# Altium schematic symbol library SparkFun-Resistors.SCHLIB: 269 symbols (part 2 of 3)
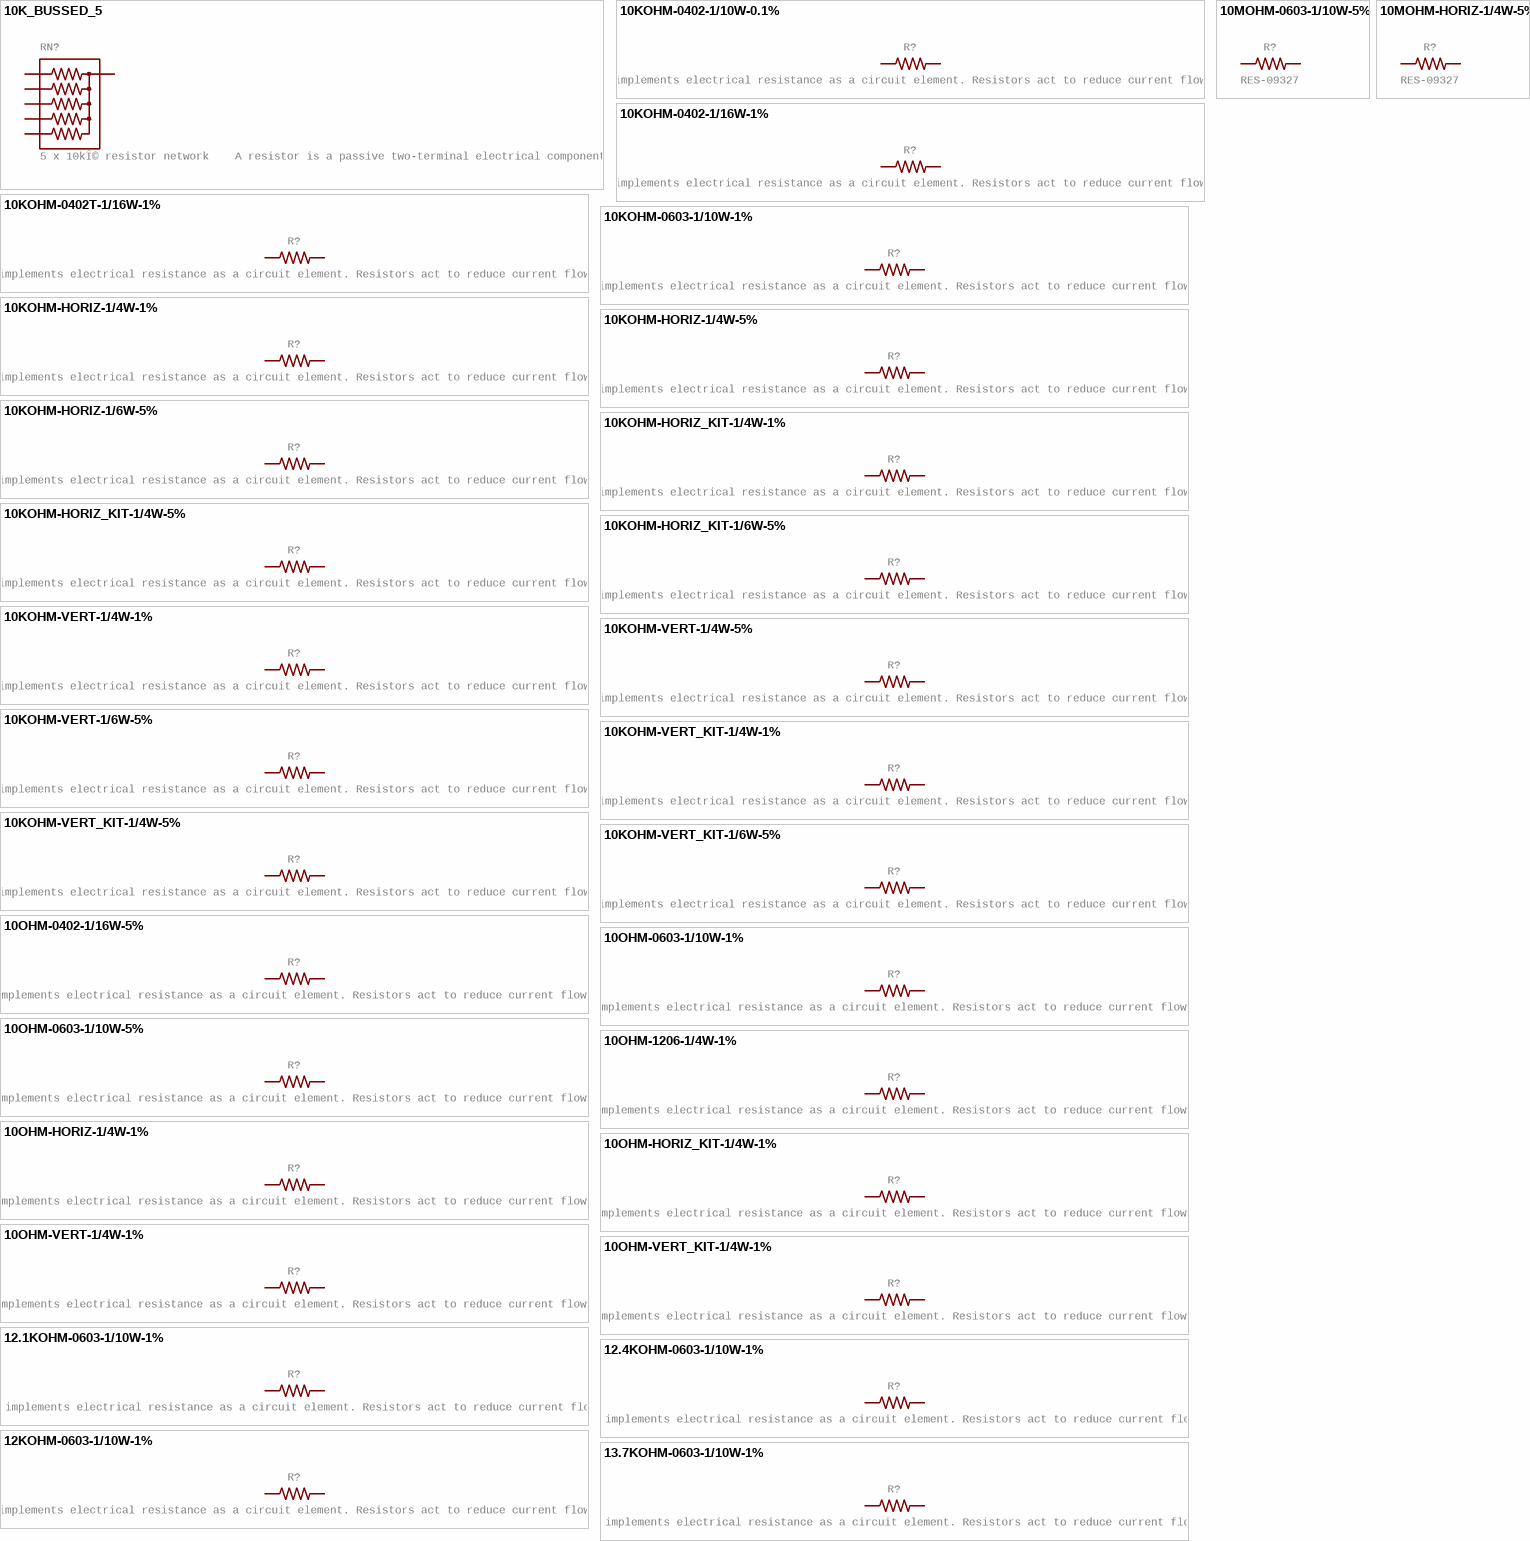
[diagram p11: symbols 10K_BUSSED_5 to 13.7KOHM-0603-1/10W-1%]

## 10MOHM-HORIZ-1/4W-5%
designator R?, comment RES-09327
GateName_1: G$1; SymbolName_1: RESISTOR; DeviceName: -HORIZ-1/4W-5%; DeviceSetName: 10MOHM; LibraryName: SparkFun-Resistors; Package: AXIAL-0.3; PROD_ID: RES-09327
footprint AXIAL-0.3
pins: P$1 1, P$2 2

## 10OHM-0402-1/16W-5%
designator R?, comment 10Î© resistor    A resistor is a passive two-terminal electrical component that implements electrical resistance as a circuit element. Resistors act to reduce current flow, and, at the same time, act to lower voltage levels within circuits. - Wikipedia
GateName_1: G$1; DeviceName: -0402-1/16W-5%; DeviceSetName: 10OHM; PROD_ID: RES-16072; SymbolName_1: RESISTOR; LibraryName: SparkFun-Resistors; Package: 0402-TIGHT
footprint 0402-TIGHT
pins: 1, 2

## 10OHM-0603-1/10W-1%
designator R?, comment 10Î© resistor    A resistor is a passive two-terminal electrical component that implements electrical resistance as a circuit element. Resistors act to reduce current flow, and, at the same time, act to lower voltage levels within circuits. - Wikipedia
GateName_1: G$1; DeviceName: -0603-1/10W-1%; DeviceSetName: 10OHM; PROD_ID: RES-12581; SymbolName_1: RESISTOR; LibraryName: SparkFun-Resistors; Package: 0603
footprint 0603
pins: 1, 2

## 10OHM-0603-1/10W-5%
designator R?, comment 10Î© resistor    A resistor is a passive two-terminal electrical component that implements electrical resistance as a circuit element. Resistors act to reduce current flow, and, at the same time, act to lower voltage levels within circuits. - Wikipedia
GateName_1: G$1; DeviceName: -0603-1/10W-5%; DeviceSetName: 10OHM; PROD_ID: RES-09834; SymbolName_1: RESISTOR; LibraryName: SparkFun-Resistors; Package: 0603
footprint 0603
pins: 1, 2

## 10OHM-1206-1/4W-1%
designator R?, comment 10Î© resistor    A resistor is a passive two-terminal electrical component that implements electrical resistance as a circuit element. Resistors act to reduce current flow, and, at the same time, act to lower voltage levels within circuits. - Wikipedia
GateName_1: G$1; DeviceName: -1206-1/4W-1%; DeviceSetName: 10OHM; PROD_ID: RES-08705; SymbolName_1: RESISTOR; LibraryName: SparkFun-Resistors; Package: 1206
footprint 1206
pins: 1, 2

## 10OHM-HORIZ-1/4W-1%
designator R?, comment 10Î© resistor    A resistor is a passive two-terminal electrical component that implements electrical resistance as a circuit element. Resistors act to reduce current flow, and, at the same time, act to lower voltage levels within circuits. - Wikipedia
GateName_1: G$1; DeviceName: -HORIZ-1/4W-1%; DeviceSetName: 10OHM; PROD_ID: RES-12180; SymbolName_1: RESISTOR; LibraryName: SparkFun-Resistors; Package: AXIAL-0.3
footprint AXIAL-0.3
pins: P$1 1, P$2 2

## 10OHM-HORIZ_KIT-1/4W-1%
designator R?, comment 10Î© resistor    A resistor is a passive two-terminal electrical component that implements electrical resistance as a circuit element. Resistors act to reduce current flow, and, at the same time, act to lower voltage levels within circuits. - Wikipedia
GateName_1: G$1; DeviceName: -HORIZ_KIT-1/4W-1%; DeviceSetName: 10OHM; PROD_ID: RES-12180; SymbolName_1: RESISTOR; LibraryName: SparkFun-Resistors; Package: AXIAL-0.3-KIT
footprint AXIAL-0.3-KIT
pins: P$1 1, P$2 2

## 10OHM-VERT-1/4W-1%
designator R?, comment 10Î© resistor    A resistor is a passive two-terminal electrical component that implements electrical resistance as a circuit element. Resistors act to reduce current flow, and, at the same time, act to lower voltage levels within circuits. - Wikipedia
GateName_1: G$1; DeviceName: -VERT-1/4W-1%; DeviceSetName: 10OHM; PROD_ID: RES-12180; SymbolName_1: RESISTOR; LibraryName: SparkFun-Resistors; Package: AXIAL-0.1
footprint AXIAL-0.1
pins: P$1 1, P$2 2

## 10OHM-VERT_KIT-1/4W-1%
designator R?, comment 10Î© resistor    A resistor is a passive two-terminal electrical component that implements electrical resistance as a circuit element. Resistors act to reduce current flow, and, at the same time, act to lower voltage levels within circuits. - Wikipedia
GateName_1: G$1; DeviceName: -VERT_KIT-1/4W-1%; DeviceSetName: 10OHM; PROD_ID: RES-12180; SymbolName_1: RESISTOR; LibraryName: SparkFun-Resistors; Package: AXIAL-0.1-KIT
footprint AXIAL-0.1-KIT
pins: P$1 1, P$2 2

## 12.1KOHM-0603-1/10W-1%
designator R?, comment 12.1kÎ© resistor    A resistor is a passive two-terminal electrical component that implements electrical resistance as a circuit element. Resistors act to reduce current flow, and, at the same time, act to lower voltage levels within circuits. - Wikipedia
GateName_1: G$1; DeviceName: -0603-1/10W-1%; DeviceSetName: 12.1KOHM; PROD_ID: RES-09378; SymbolName_1: RESISTOR; LibraryName: SparkFun-Resistors; Package: 0603
footprint 0603
pins: 1, 2

## 12.4KOHM-0603-1/10W-1%
designator R?, comment 12.4kÎ© resistor    A resistor is a passive two-terminal electrical component that implements electrical resistance as a circuit element. Resistors act to reduce current flow, and, at the same time, act to lower voltage levels within circuits. - Wikipedia
GateName_1: R1; DeviceName: -0603-1/10W-1%; DeviceSetName: 12.4KOHM; PROD_ID: RES-16236; SymbolName_1: RESISTOR; LibraryName: SparkFun-Resistors; Package: 0603
footprint 0603
pins: 1, 2

## 12KOHM-0603-1/10W-1%
designator R?, comment 12kÎ© resistor    A resistor is a passive two-terminal electrical component that implements electrical resistance as a circuit element. Resistors act to reduce current flow, and, at the same time, act to lower voltage levels within circuits. - Wikipedia
GateName_1: G$1; DeviceName: -0603-1/10W-1%; DeviceSetName: 12KOHM; PROD_ID: RES-10327; SymbolName_1: RESISTOR; LibraryName: SparkFun-Resistors; Package: 0603
footprint 0603
pins: 1, 2

## 13.7KOHM-0603-1/10W-1%
designator R?, comment 13.7kÎ© resistor    A resistor is a passive two-terminal electrical component that implements electrical resistance as a circuit element. Resistors act to reduce current flow, and, at the same time, act to lower voltage levels within circuits. - Wikipedia
GateName_1: G$1; DeviceName: -0603-1/10W-1%; DeviceSetName: 13.7KOHM; PROD_ID: RES-08603; SymbolName_1: RESISTOR; LibraryName: SparkFun-Resistors; Package: 0603
footprint 0603
pins: 1, 2

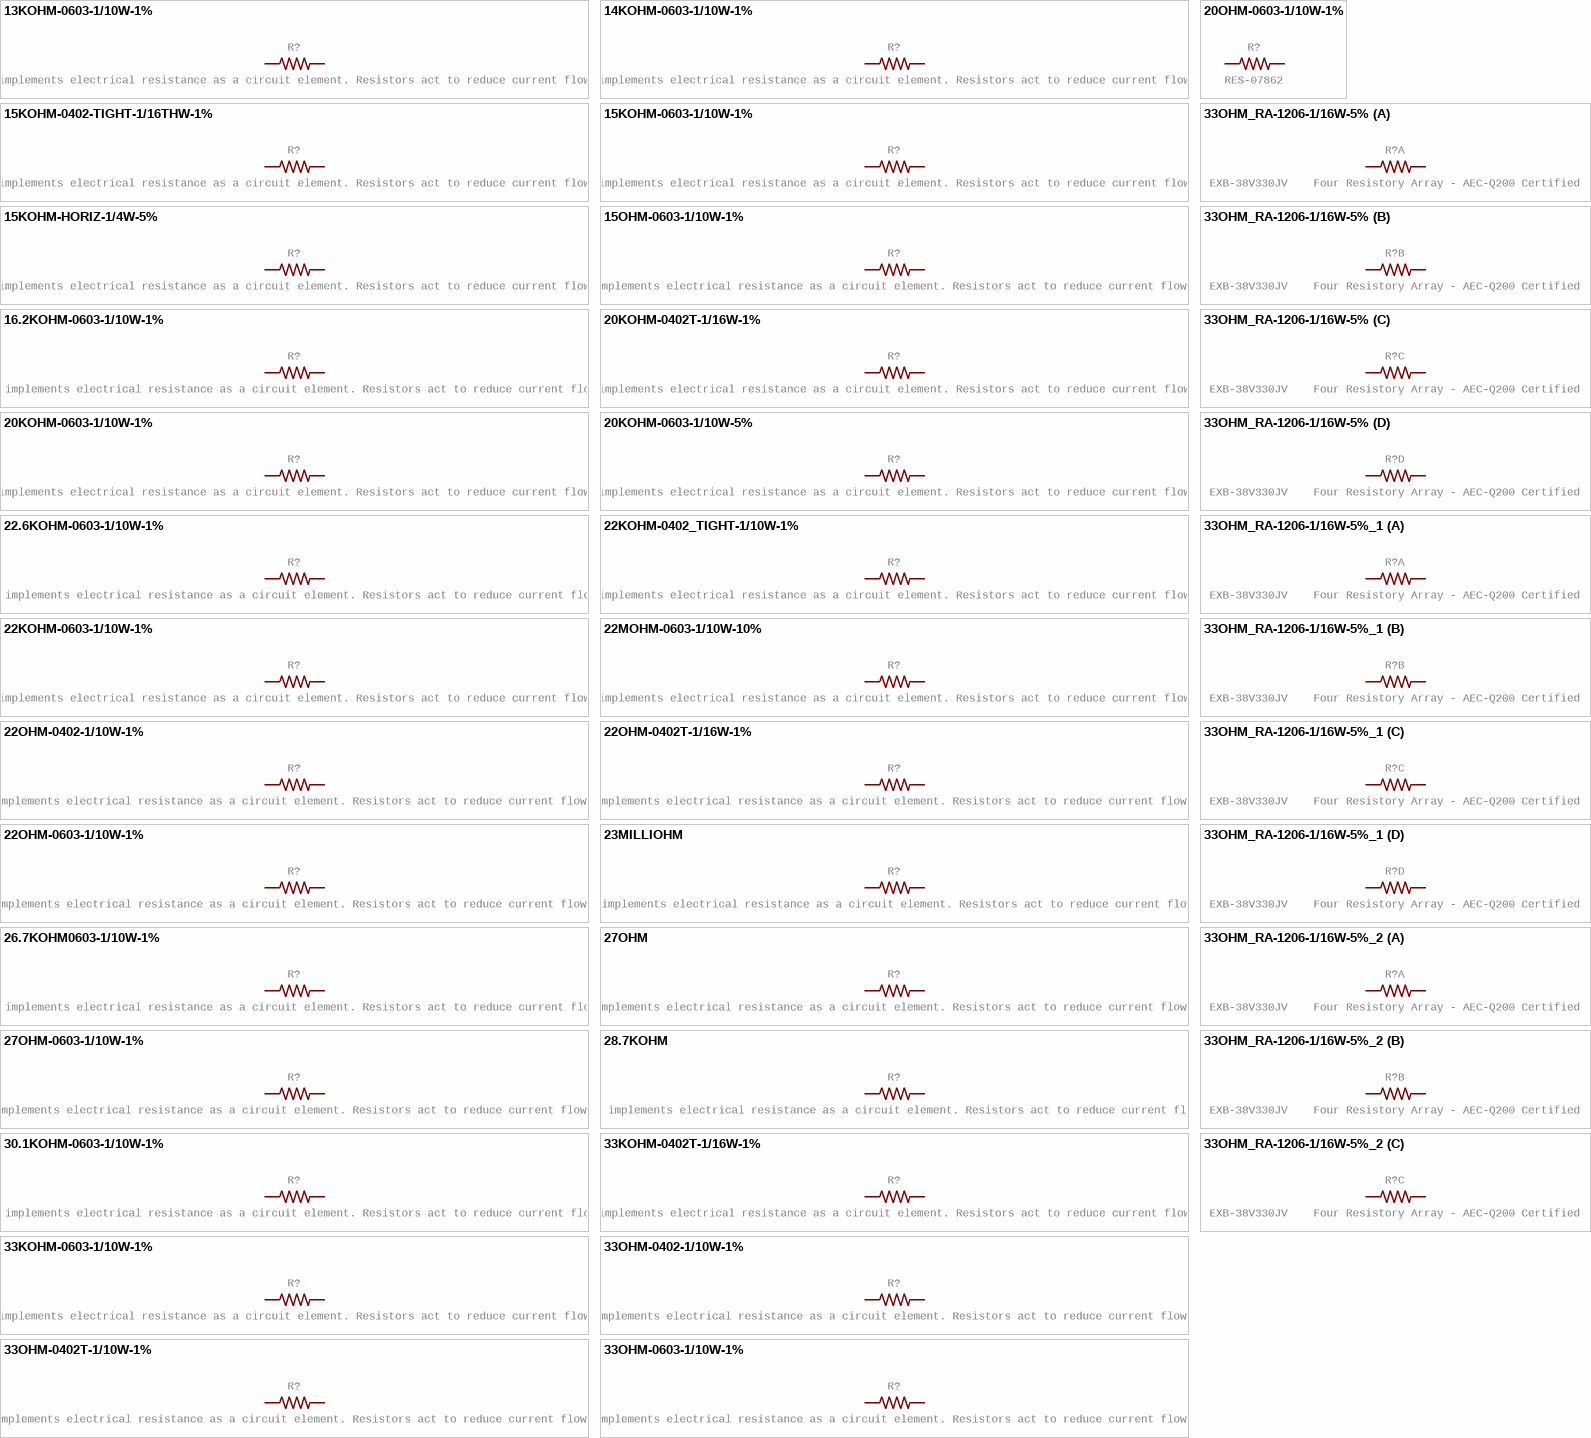
[diagram p4: symbols 13KOHM-0603-1/10W-1% to 33OHM_RA-1206-1/16W-5%_2]

## 13KOHM-0603-1/10W-1%
designator R?, comment 13kÎ© resistor    A resistor is a passive two-terminal electrical component that implements electrical resistance as a circuit element. Resistors act to reduce current flow, and, at the same time, act to lower voltage levels within circuits. - Wikipedia
GateName_1: G$1; DeviceName: -0603-1/10W-1%; DeviceSetName: 13KOHM; PROD_ID: RES-14017; SymbolName_1: RESISTOR; LibraryName: SparkFun-Resistors; Package: 0603
footprint 0603
pins: 1, 2

## 14KOHM-0603-1/10W-1%
designator R?, comment 14kÎ© resistor    A resistor is a passive two-terminal electrical component that implements electrical resistance as a circuit element. Resistors act to reduce current flow, and, at the same time, act to lower voltage levels within circuits. - Wikipedia
GateName_1: G$1; DeviceName: -0603-1/10W-1%; DeviceSetName: 14KOHM; PROD_ID: RES-13340; SymbolName_1: RESISTOR; LibraryName: SparkFun-Resistors; Package: 0603
footprint 0603
pins: 1, 2

## 15KOHM-0402-TIGHT-1/16THW-1%
designator R?, comment 15kÎ© resistor    A resistor is a passive two-terminal electrical component that implements electrical resistance as a circuit element. Resistors act to reduce current flow, and, at the same time, act to lower voltage levels within circuits. - Wikipedia
GateName_1: G$1; DeviceName: -0402-TIGHT-1/16THW-1%; DeviceSetName: 15KOHM; PROD_ID: RES-15004; SymbolName_1: RESISTOR; LibraryName: SparkFun-Resistors; Package: 0402-TIGHT
footprint 0402-TIGHT
pins: 1, 2

## 15KOHM-0603-1/10W-1%
designator R?, comment 15kÎ© resistor    A resistor is a passive two-terminal electrical component that implements electrical resistance as a circuit element. Resistors act to reduce current flow, and, at the same time, act to lower voltage levels within circuits. - Wikipedia
GateName_1: G$1; DeviceName: -0603-1/10W-1%; DeviceSetName: 15KOHM; PROD_ID: RES-07854; SymbolName_1: RESISTOR; LibraryName: SparkFun-Resistors; Package: 0603
footprint 0603
pins: 1, 2

## 15KOHM-HORIZ-1/4W-5%
designator R?, comment 15kÎ© resistor    A resistor is a passive two-terminal electrical component that implements electrical resistance as a circuit element. Resistors act to reduce current flow, and, at the same time, act to lower voltage levels within circuits. - Wikipedia
GateName_1: G$1; DeviceName: -HORIZ-1/4W-5%; DeviceSetName: 15KOHM; PROD_ID: RES-11360; SymbolName_1: RESISTOR; LibraryName: SparkFun-Resistors; Package: AXIAL-0.3
footprint AXIAL-0.3
pins: P$1 1, P$2 2

## 15OHM-0603-1/10W-1%
designator R?, comment 15Î© resistor    A resistor is a passive two-terminal electrical component that implements electrical resistance as a circuit element. Resistors act to reduce current flow, and, at the same time, act to lower voltage levels within circuits. - Wikipedia
GateName_1: G$1; DeviceName: -0603-1/10W-1%; DeviceSetName: 15OHM; PROD_ID: RES-12570; SymbolName_1: RESISTOR; LibraryName: SparkFun-Resistors; Package: 0603
footprint 0603
pins: 1, 2

## 16.2KOHM-0603-1/10W-1%
designator R?, comment 16.2kÎ© resistor    A resistor is a passive two-terminal electrical component that implements electrical resistance as a circuit element. Resistors act to reduce current flow, and, at the same time, act to lower voltage levels within circuits. - Wikipedia
GateName_1: G$1; DeviceName: -0603-1/10W-1%; DeviceSetName: 16.2KOHM; PROD_ID: RES-12187; SymbolName_1: RESISTOR; LibraryName: SparkFun-Resistors; Package: 0603
footprint 0603
pins: 1, 2

## 20KOHM-0402T-1/16W-1%
designator R?, comment 20kÎ© resistor    A resistor is a passive two-terminal electrical component that implements electrical resistance as a circuit element. Resistors act to reduce current flow, and, at the same time, act to lower voltage levels within circuits. - Wikipedia
GateName_1: G$1; DeviceName: -0402T-1/16W-1%; DeviceSetName: 20KOHM; PROD_ID: RES-15131; SymbolName_1: RESISTOR; LibraryName: SparkFun-Resistors; Package: 0402-TIGHT
footprint 0402-TIGHT
pins: 1, 2

## 20KOHM-0603-1/10W-1%
designator R?, comment 20kÎ© resistor    A resistor is a passive two-terminal electrical component that implements electrical resistance as a circuit element. Resistors act to reduce current flow, and, at the same time, act to lower voltage levels within circuits. - Wikipedia
GateName_1: G$1; DeviceName: -0603-1/10W-1%; DeviceSetName: 20KOHM; PROD_ID: RES-09383; SymbolName_1: RESISTOR; LibraryName: SparkFun-Resistors; Package: 0603
footprint 0603
pins: 1, 2

## 20KOHM-0603-1/10W-5%
designator R?, comment 20kÎ© resistor    A resistor is a passive two-terminal electrical component that implements electrical resistance as a circuit element. Resistors act to reduce current flow, and, at the same time, act to lower voltage levels within circuits. - Wikipedia
GateName_1: G$1; DeviceName: -0603-1/10W-5%; DeviceSetName: 20KOHM; PROD_ID: RES-09231; SymbolName_1: RESISTOR; LibraryName: SparkFun-Resistors; Package: 0603
footprint 0603
pins: 1, 2

## 20OHM-0603-1/10W-1%
designator R?, comment RES-07862
GateName_1: G$1; SymbolName_1: RESISTOR; DeviceName: -0603-1/10W-1%; DeviceSetName: 20OHM; LibraryName: SparkFun-Resistors; Package: 0603; PROD_ID: RES-07862
footprint 0603
pins: 1, 2

## 22.6KOHM-0603-1/10W-1%
designator R?, comment 22.6kÎ© resistor    A resistor is a passive two-terminal electrical component that implements electrical resistance as a circuit element. Resistors act to reduce current flow, and, at the same time, act to lower voltage levels within circuits. - Wikipedia
GateName_1: G$1; DeviceName: -0603-1/10W-1%; DeviceSetName: 22.6KOHM; PROD_ID: RES-09384; SymbolName_1: RESISTOR; LibraryName: SparkFun-Resistors; Package: 0603
footprint 0603
pins: 1, 2

## 22KOHM-0402_TIGHT-1/10W-1%
designator R?, comment 22kÎ© resistor    A resistor is a passive two-terminal electrical component that implements electrical resistance as a circuit element. Resistors act to reduce current flow, and, at the same time, act to lower voltage levels within circuits. - Wikipedia
GateName_1: G$1; DeviceName: -0402_TIGHT-1/10W-1%; DeviceSetName: 22KOHM; PROD_ID: RES-14281; SymbolName_1: RESISTOR; LibraryName: SparkFun-Resistors; Package: 0402-TIGHT
footprint 0402-TIGHT
pins: 1, 2

## 22KOHM-0603-1/10W-1%
designator R?, comment 22kÎ© resistor    A resistor is a passive two-terminal electrical component that implements electrical resistance as a circuit element. Resistors act to reduce current flow, and, at the same time, act to lower voltage levels within circuits. - Wikipedia
GateName_1: G$1; DeviceName: -0603-1/10W-1%; DeviceSetName: 22KOHM; PROD_ID: RES-07853; SymbolName_1: RESISTOR; LibraryName: SparkFun-Resistors; Package: 0603
footprint 0603
pins: 1, 2

## 22MOHM-0603-1/10W-10%
designator R?, comment 22MÎ© resistor    A resistor is a passive two-terminal electrical component that implements electrical resistance as a circuit element. Resistors act to reduce current flow, and, at the same time, act to lower voltage levels within circuits. - Wikipedia
GateName_1: G$1; DeviceName: -0603-1/10W-10%; DeviceSetName: 22MOHM; PROD_ID: RES-11132; SymbolName_1: RESISTOR; LibraryName: SparkFun-Resistors; Package: 0603
footprint 0603
pins: 1, 2

## 22OHM-0402-1/10W-1%
designator R?, comment 22Î© resistor    A resistor is a passive two-terminal electrical component that implements electrical resistance as a circuit element. Resistors act to reduce current flow, and, at the same time, act to lower voltage levels within circuits. - Wikipedia
GateName_1: G$1; DeviceName: -0402-1/10W-1%; DeviceSetName: 22OHM; PROD_ID: RES-12427; SymbolName_1: RESISTOR; LibraryName: SparkFun-Resistors; Package: 0402
footprint 0402
pins: 1, 2

## 22OHM-0402T-1/16W-1%
designator R?, comment 22Î© resistor    A resistor is a passive two-terminal electrical component that implements electrical resistance as a circuit element. Resistors act to reduce current flow, and, at the same time, act to lower voltage levels within circuits. - Wikipedia
GateName_1: G$1; DeviceName: -0402T-1/16W-1%; DeviceSetName: 22OHM; PROD_ID: RES-12427; SymbolName_1: RESISTOR; LibraryName: SparkFun-Resistors; Package: 0402-TIGHT
footprint 0402-TIGHT
pins: 1, 2

## 22OHM-0603-1/10W-1%
designator R?, comment 22Î© resistor    A resistor is a passive two-terminal electrical component that implements electrical resistance as a circuit element. Resistors act to reduce current flow, and, at the same time, act to lower voltage levels within circuits. - Wikipedia
GateName_1: G$1; DeviceName: -0603-1/10W-1%; DeviceSetName: 22OHM; PROD_ID: RES-08698; SymbolName_1: RESISTOR; LibraryName: SparkFun-Resistors; Package: 0603
footprint 0603
pins: 1, 2

## 23MILLIOHM
designator R?, comment 23 mÎ© resistor    A resistor is a passive two-terminal electrical component that implements electrical resistance as a circuit element. Resistors act to reduce current flow, and, at the same time, act to lower voltage levels within circuits. - Wikipedia
GateName_1: G$1; DeviceSetName: 23MILLIOHM; PROD_ID: RES-15813; SymbolName_1: RESISTOR; LibraryName: SparkFun-Resistors; Package: 2512
footprint 2512
pins: P$1 1, P$2 2

## 26.7KOHM0603-1/10W-1%
designator R?, comment 26.7kÎ© resistor    A resistor is a passive two-terminal electrical component that implements electrical resistance as a circuit element. Resistors act to reduce current flow, and, at the same time, act to lower voltage levels within circuits. - Wikipedia
GateName_1: G$1; DeviceName: 0603-1/10W-1%; DeviceSetName: 26.7KOHM; PROD_ID: RES-12186; SymbolName_1: RESISTOR; LibraryName: SparkFun-Resistors; Package: 0603
footprint 0603
pins: 1, 2

## 27OHM
designator R?, comment 27Î© resistor    A resistor is a passive two-terminal electrical component that implements electrical resistance as a circuit element. Resistors act to reduce current flow, and, at the same time, act to lower voltage levels within circuits. - Wikipedia
GateName_1: G$1; DeviceSetName: 27OHM; PROD_ID: RES-15238; SymbolName_1: RESISTOR; LibraryName: SparkFun-Resistors; Package: 0402-TIGHT
footprint 0402-TIGHT
pins: 1, 2

## 27OHM-0603-1/10W-1%
designator R?, comment 27Î© resistor    A resistor is a passive two-terminal electrical component that implements electrical resistance as a circuit element. Resistors act to reduce current flow, and, at the same time, act to lower voltage levels within circuits. - Wikipedia
GateName_1: G$1; DeviceName: -0603-1/10W-1%; DeviceSetName: 27OHM; PROD_ID: RES-09334; SymbolName_1: RESISTOR; LibraryName: SparkFun-Resistors; Package: 0603
footprint 0603
pins: 1, 2

## 28.7KOHM
designator R?, comment 28.7 kÎ© resistor    A resistor is a passive two-terminal electrical component that implements electrical resistance as a circuit element. Resistors act to reduce current flow, and, at the same time, act to lower voltage levels within circuits. - Wikipedia
GateName_1: G$1; DeviceSetName: 28.7KOHM; PROD_ID: RES-15817; SymbolName_1: RESISTOR; LibraryName: SparkFun-Resistors; Package: 0603
footprint 0603
pins: 1, 2

## 30.1KOHM-0603-1/10W-1%
designator R?, comment 30.1kÎ© resistor    A resistor is a passive two-terminal electrical component that implements electrical resistance as a circuit element. Resistors act to reduce current flow, and, at the same time, act to lower voltage levels within circuits. - Wikipedia
GateName_1: G$1; DeviceName: -0603-1/10W-1%; DeviceSetName: 30.1KOHM; PROD_ID: RES-14690; SymbolName_1: RESISTOR; LibraryName: SparkFun-Resistors; Package: 0603
footprint 0603
pins: 1, 2

## 33KOHM-0402T-1/16W-1%
designator R?, comment 33kÎ© resistor    A resistor is a passive two-terminal electrical component that implements electrical resistance as a circuit element. Resistors act to reduce current flow, and, at the same time, act to lower voltage levels within circuits. - Wikipedia
GateName_1: G$1; DeviceName: -0402T-1/16W-1%; DeviceSetName: 33KOHM; PROD_ID: RES-15128; SymbolName_1: RESISTOR; LibraryName: SparkFun-Resistors; Package: 0402-TIGHT
footprint 0402-TIGHT
pins: 1, 2

## 33KOHM-0603-1/10W-1%
designator R?, comment 33kÎ© resistor    A resistor is a passive two-terminal electrical component that implements electrical resistance as a circuit element. Resistors act to reduce current flow, and, at the same time, act to lower voltage levels within circuits. - Wikipedia
GateName_1: G$1; DeviceName: -0603-1/10W-1%; DeviceSetName: 33KOHM; PROD_ID: RES-08416; SymbolName_1: RESISTOR; LibraryName: SparkFun-Resistors; Package: 0603
footprint 0603
pins: 1, 2

## 33OHM-0402-1/10W-1%
designator R?, comment 33Î© resistor    A resistor is a passive two-terminal electrical component that implements electrical resistance as a circuit element. Resistors act to reduce current flow, and, at the same time, act to lower voltage levels within circuits. - Wikipedia
GateName_1: G$1; DeviceName: -0402-1/10W-1%; DeviceSetName: 33OHM; PROD_ID: RES-14883; SymbolName_1: RESISTOR; LibraryName: SparkFun-Resistors; Package: 0402
footprint 0402
pins: 1, 2

## 33OHM-0402T-1/10W-1%
designator R?, comment 33Î© resistor    A resistor is a passive two-terminal electrical component that implements electrical resistance as a circuit element. Resistors act to reduce current flow, and, at the same time, act to lower voltage levels within circuits. - Wikipedia
GateName_1: G$1; DeviceName: -0402T-1/10W-1%; DeviceSetName: 33OHM; PROD_ID: RES-14883; SymbolName_1: RESISTOR; LibraryName: SparkFun-Resistors; Package: 0402-TIGHT
footprint 0402-TIGHT
pins: 1, 2

## 33OHM-0603-1/10W-1%
designator R?, comment 33Î© resistor    A resistor is a passive two-terminal electrical component that implements electrical resistance as a circuit element. Resistors act to reduce current flow, and, at the same time, act to lower voltage levels within circuits. - Wikipedia
GateName_1: G$1; DeviceName: -0603-1/10W-1%; DeviceSetName: 33OHM; PROD_ID: RES-08270; SymbolName_1: RESISTOR; LibraryName: SparkFun-Resistors; Package: 0603
footprint 0603
pins: 1, 2

## 33OHM_RA-1206-1/16W-5%
designator R?, comment EXB-38V330JV    Four Resistory Array - AEC-Q200 Certified
GateName_1: A; GateName_2: B; GateName_3: C; GateName_4: D; DeviceName: -1206-1/16W-5%; DeviceSetName: 33OHM_RA; PROD_ID: RES-15081; SymbolName_1: RESISTOR; SymbolName_2: RESISTOR; SymbolName_3: RESISTOR; SymbolName_4: RESISTOR; LibraryName: SparkFun-Resistors; Package: 1206_RA
footprint 1206_RA
part A pins: P1 1, P8 2
part B pins: P2 1, P7 2
part C pins: P3 1, P6 2
part D pins: P4 1, P5 2

## 33OHM_RA-1206-1/16W-5%_1
designator R?, comment EXB-38V330JV    Four Resistory Array - AEC-Q200 Certified
GateName_1: A; GateName_2: B; GateName_3: C; GateName_4: D; DeviceName: -1206-1/16W-5%; DeviceSetName: 33OHM_RA; PROD_ID: RES-15081; SymbolName_1: RESISTOR; SymbolName_2: RESISTOR; SymbolName_3: RESISTOR; SymbolName_4: RESISTOR; LibraryName: SparkFun-Resistors; Package: 1206_RA
footprint 1206_RA
part A pins: P1 1, P8 2
part B pins: P2 1, P7 2
part C pins: P3 1, P6 2
part D pins: P4 1, P5 2

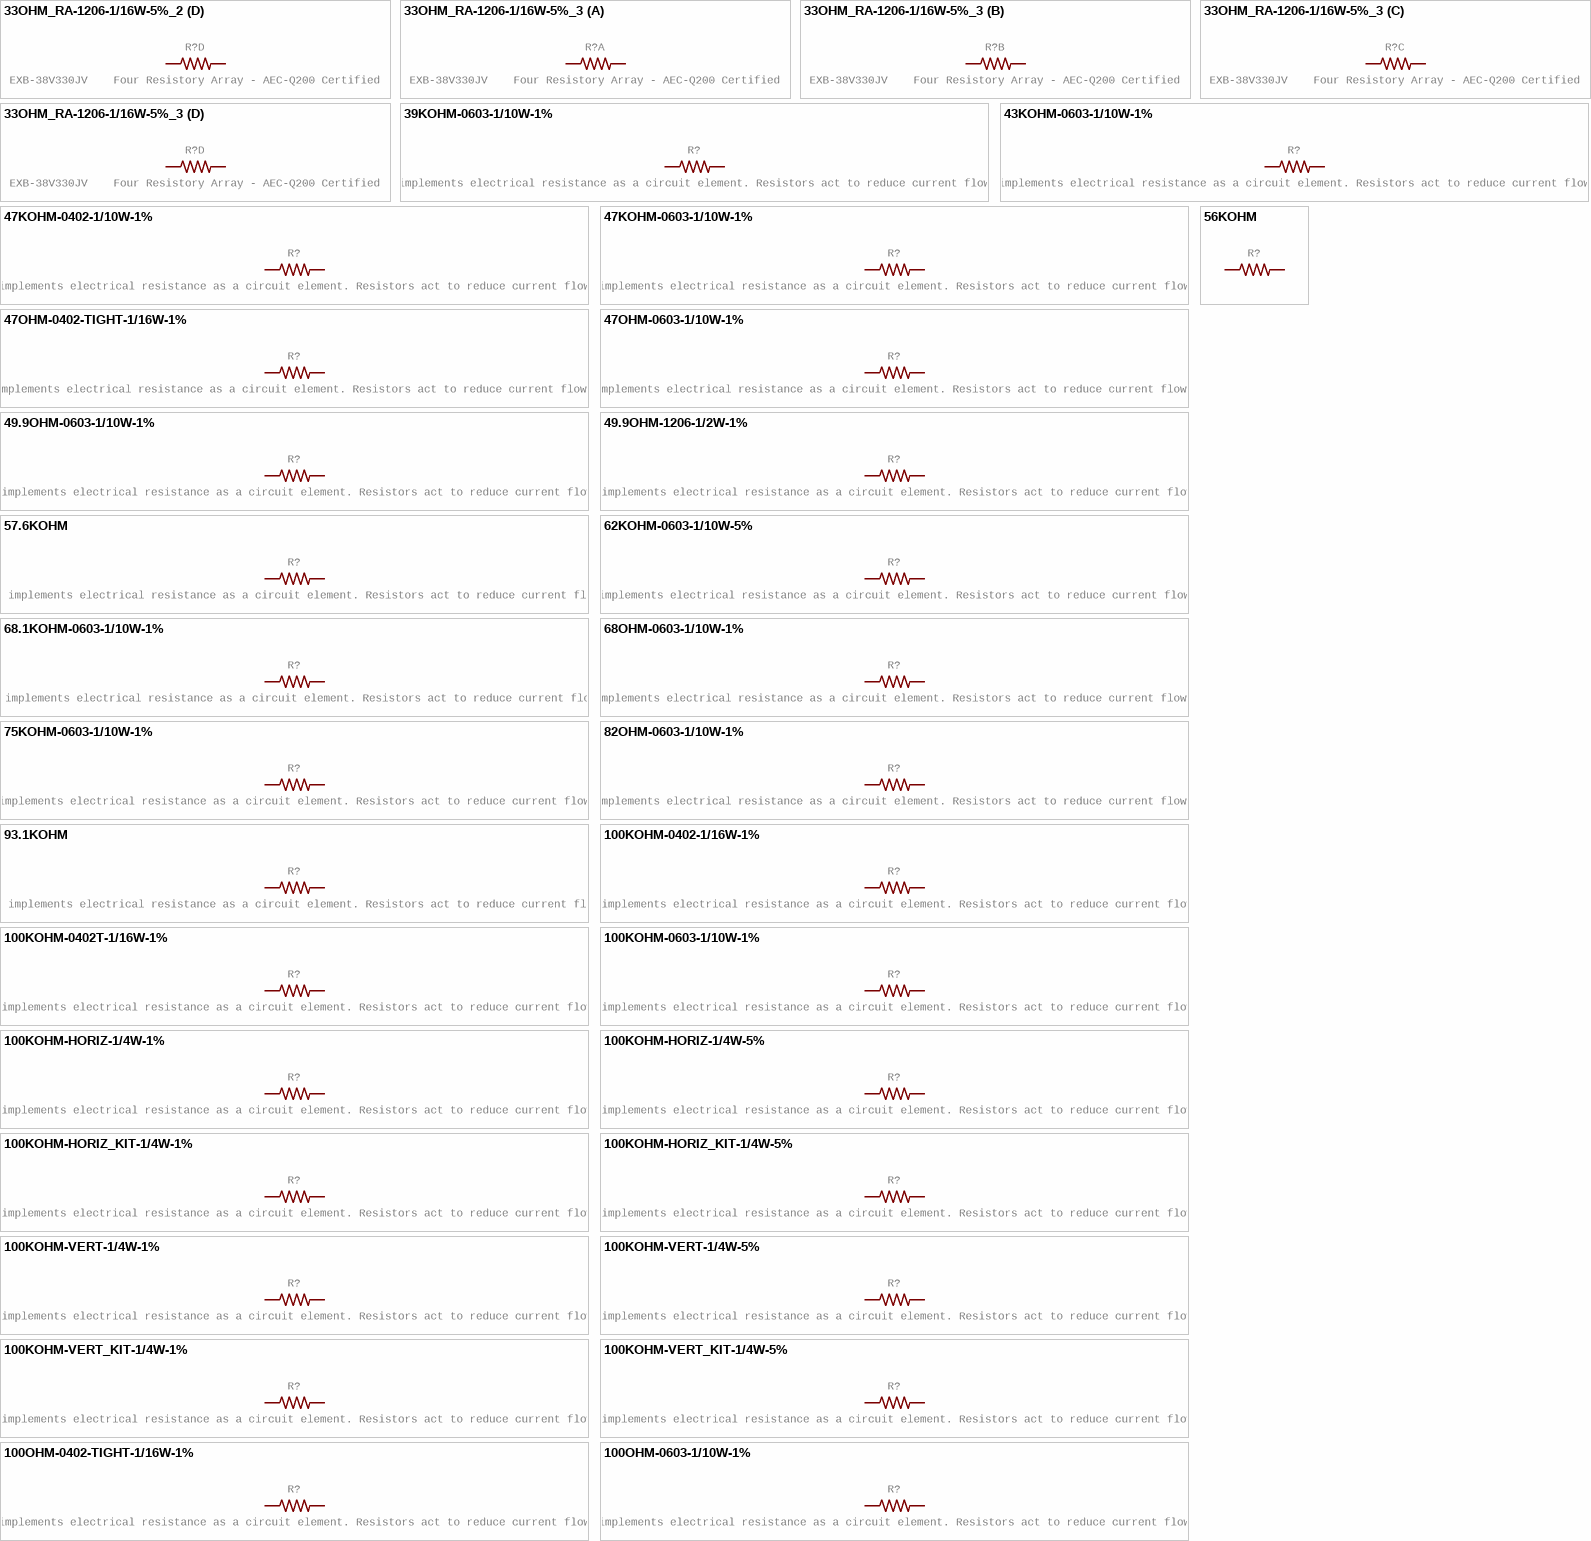
[diagram p5: symbols 33OHM_RA-1206-1/16W-5%_2 to 100OHM-0603-1/10W-1%]

## 33OHM_RA-1206-1/16W-5%_2
designator R?, comment EXB-38V330JV    Four Resistory Array - AEC-Q200 Certified
GateName_1: A; GateName_2: B; GateName_3: C; GateName_4: D; DeviceName: -1206-1/16W-5%; DeviceSetName: 33OHM_RA; PROD_ID: RES-15081; SymbolName_1: RESISTOR; SymbolName_2: RESISTOR; SymbolName_3: RESISTOR; SymbolName_4: RESISTOR; LibraryName: SparkFun-Resistors; Package: 1206_RA
footprint 1206_RA
part A pins: P1 1, P8 2
part B pins: P2 1, P7 2
part C pins: P3 1, P6 2
part D pins: P4 1, P5 2

## 33OHM_RA-1206-1/16W-5%_3
designator R?, comment EXB-38V330JV    Four Resistory Array - AEC-Q200 Certified
GateName_1: A; GateName_2: B; GateName_3: C; GateName_4: D; DeviceName: -1206-1/16W-5%; DeviceSetName: 33OHM_RA; PROD_ID: RES-15081; SymbolName_1: RESISTOR; SymbolName_2: RESISTOR; SymbolName_3: RESISTOR; SymbolName_4: RESISTOR; LibraryName: SparkFun-Resistors; Package: 1206_RA
footprint 1206_RA
part A pins: P1 1, P8 2
part B pins: P2 1, P7 2
part C pins: P3 1, P6 2
part D pins: P4 1, P5 2

## 39KOHM-0603-1/10W-1%
designator R?, comment 39kÎ© resistor    A resistor is a passive two-terminal electrical component that implements electrical resistance as a circuit element. Resistors act to reduce current flow, and, at the same time, act to lower voltage levels within circuits. - Wikipedia
GateName_1: G$1; DeviceName: -0603-1/10W-1%; DeviceSetName: 39KOHM; PROD_ID: RES-12377; SymbolName_1: RESISTOR; LibraryName: SparkFun-Resistors; Package: 0603
footprint 0603
pins: 1, 2

## 43KOHM-0603-1/10W-1%
designator R?, comment 43kÎ© resistor    A resistor is a passive two-terminal electrical component that implements electrical resistance as a circuit element. Resistors act to reduce current flow, and, at the same time, act to lower voltage levels within circuits. - Wikipedia
GateName_1: G$1; DeviceName: -0603-1/10W-1%; DeviceSetName: 43KOHM; PROD_ID: RES-07858; SymbolName_1: RESISTOR; LibraryName: SparkFun-Resistors; Package: 0603
footprint 0603
pins: 1, 2

## 47KOHM-0402-1/10W-1%
designator R?, comment 47kÎ© resistor    A resistor is a passive two-terminal electrical component that implements electrical resistance as a circuit element. Resistors act to reduce current flow, and, at the same time, act to lower voltage levels within circuits. - Wikipedia
GateName_1: G$1; DeviceName: -0402-1/10W-1%; DeviceSetName: 47KOHM; PROD_ID: RES-15011; SymbolName_1: RESISTOR; LibraryName: SparkFun-Resistors; Package: 0402-TIGHT
footprint 0402-TIGHT
pins: 1, 2

## 47KOHM-0603-1/10W-1%
designator R?, comment 47kÎ© resistor    A resistor is a passive two-terminal electrical component that implements electrical resistance as a circuit element. Resistors act to reduce current flow, and, at the same time, act to lower voltage levels within circuits. - Wikipedia
GateName_1: G$1; DeviceName: -0603-1/10W-1%; DeviceSetName: 47KOHM; PROD_ID: RES-07871; SymbolName_1: RESISTOR; LibraryName: SparkFun-Resistors; Package: 0603
footprint 0603
pins: 1, 2

## 47OHM-0402-TIGHT-1/16W-1%
designator R?, comment 47Î© resistor    A resistor is a passive two-terminal electrical component that implements electrical resistance as a circuit element. Resistors act to reduce current flow, and, at the same time, act to lower voltage levels within circuits. - Wikipedia
GateName_1: R1; DeviceName: -0402-TIGHT-1/16W-1%; DeviceSetName: 47OHM; PROD_ID: RES-15585; SymbolName_1: RESISTOR; LibraryName: SparkFun-Resistors; Package: 0402-TIGHT
footprint 0402-TIGHT
pins: 1, 2

## 47OHM-0603-1/10W-1%
designator R?, comment 47Î© resistor    A resistor is a passive two-terminal electrical component that implements electrical resistance as a circuit element. Resistors act to reduce current flow, and, at the same time, act to lower voltage levels within circuits. - Wikipedia
GateName_1: R1; DeviceName: -0603-1/10W-1%; DeviceSetName: 47OHM; PROD_ID: RES-14282; SymbolName_1: RESISTOR; LibraryName: SparkFun-Resistors; Package: 0603
footprint 0603
pins: 1, 2

## 49.9OHM-0603-1/10W-1%
designator R?, comment 49.9Î© resistor    A resistor is a passive two-terminal electrical component that implements electrical resistance as a circuit element. Resistors act to reduce current flow, and, at the same time, act to lower voltage levels within circuits. - Wikipedia
GateName_1: R1; DeviceName: -0603-1/10W-1%; DeviceSetName: 49.9OHM; PROD_ID: RES-16237; SymbolName_1: RESISTOR; LibraryName: SparkFun-Resistors; Package: 0603
footprint 0603
pins: 1, 2

## 49.9OHM-1206-1/2W-1%
designator R?, comment 49.9Î© resistor    A resistor is a passive two-terminal electrical component that implements electrical resistance as a circuit element. Resistors act to reduce current flow, and, at the same time, act to lower voltage levels within circuits. - Wikipedia
GateName_1: R1; DeviceName: -1206-1/2W-1%; DeviceSetName: 49.9OHM; PROD_ID: RES-16252; SymbolName_1: RESISTOR; LibraryName: SparkFun-Resistors; Package: 1206
footprint 1206
pins: 1, 2

## 56KOHM
designator R?
GateName_1: G$1; SymbolName_1: RESISTOR; DeviceSetName: 56KOHM; LibraryName: SparkFun-Resistors; Package: 0603
footprint 0603
pins: 1, 2

## 57.6KOHM
designator R?, comment 57.6 kÎ© resistor    A resistor is a passive two-terminal electrical component that implements electrical resistance as a circuit element. Resistors act to reduce current flow, and, at the same time, act to lower voltage levels within circuits. - Wikipedia
GateName_1: G$1; DeviceSetName: 57.6KOHM; PROD_ID: RES-15818; SymbolName_1: RESISTOR; LibraryName: SparkFun-Resistors; Package: 0603
footprint 0603
pins: 1, 2

## 62KOHM-0603-1/10W-5%
designator R?, comment 62kÎ© resistor    A resistor is a passive two-terminal electrical component that implements electrical resistance as a circuit element. Resistors act to reduce current flow, and, at the same time, act to lower voltage levels within circuits. - Wikipedia
GateName_1: G$1; DeviceName: -0603-1/10W-5%; DeviceSetName: 62KOHM; PROD_ID: RES-09993; SymbolName_1: RESISTOR; LibraryName: SparkFun-Resistors; Package: 0603
footprint 0603
pins: 1, 2

## 68.1KOHM-0603-1/10W-1%
designator R?, comment 68.1kÎ© resistor    A resistor is a passive two-terminal electrical component that implements electrical resistance as a circuit element. Resistors act to reduce current flow, and, at the same time, act to lower voltage levels within circuits. - Wikipedia
GateName_1: >NAME; DeviceName: -0603-1/10W-1%; DeviceSetName: 68.1KOHM; PROD_ID: RES-09380; SymbolName_1: RESISTOR; LibraryName: SparkFun-Resistors; Package: 0603
footprint 0603
pins: 1, 2

## 68OHM-0603-1/10W-1%
designator R?, comment 68Î© resistor    A resistor is a passive two-terminal electrical component that implements electrical resistance as a circuit element. Resistors act to reduce current flow, and, at the same time, act to lower voltage levels within circuits. - Wikipedia
GateName_1: G$1; DeviceName: -0603-1/10W-1%; DeviceSetName: 68OHM; SymbolName_1: RESISTOR; LibraryName: SparkFun-Resistors; Package: 0603
footprint 0603
pins: 1, 2

## 75KOHM-0603-1/10W-1%
designator R?, comment 75kÎ© resistor    A resistor is a passive two-terminal electrical component that implements electrical resistance as a circuit element. Resistors act to reduce current flow, and, at the same time, act to lower voltage levels within circuits. - Wikipedia
GateName_1: G$1; DeviceName: -0603-1/10W-1%; DeviceSetName: 75KOHM; PROD_ID: RES-09737; SymbolName_1: RESISTOR; LibraryName: SparkFun-Resistors; Package: 0603
footprint 0603
pins: 1, 2

## 82OHM-0603-1/10W-1%
designator R?, comment 82Î© resistor    A resistor is a passive two-terminal electrical component that implements electrical resistance as a circuit element. Resistors act to reduce current flow, and, at the same time, act to lower voltage levels within circuits. - Wikipedia
GateName_1: G$1; DeviceName: -0603-1/10W-1%; DeviceSetName: 82OHM; PROD_ID: RES-12311; SymbolName_1: RESISTOR; LibraryName: SparkFun-Resistors; Package: 0603
footprint 0603
pins: 1, 2

## 93.1KOHM
designator R?, comment 93.1kÎ© resistor     A resistor is a passive two-terminal electrical component that implements electrical resistance as a circuit element. Resistors act to reduce current flow, and, at the same time, act to lower voltage levels within circuits. - Wikipedia
GateName_1: G$1; DeviceSetName: 93.1KOHM; PROD_ID: RES-14393; SymbolName_1: RESISTOR; LibraryName: SparkFun-Resistors; Package: 0603
footprint 0603
pins: 1, 2

## 100KOHM-0402-1/16W-1%
designator R?, comment 100kÎ© resistor    A resistor is a passive two-terminal electrical component that implements electrical resistance as a circuit element. Resistors act to reduce current flow, and, at the same time, act to lower voltage levels within circuits. - Wikipedia
GateName_1: G$1; DeviceName: -0402-1/16W-1%; DeviceSetName: 100KOHM; PROD_ID: RES-13495; SymbolName_1: RESISTOR; LibraryName: SparkFun-Resistors; Package: 0402
footprint 0402
pins: 1, 2

## 100KOHM-0402T-1/16W-1%
designator R?, comment 100kÎ© resistor    A resistor is a passive two-terminal electrical component that implements electrical resistance as a circuit element. Resistors act to reduce current flow, and, at the same time, act to lower voltage levels within circuits. - Wikipedia
GateName_1: G$1; DeviceName: -0402T-1/16W-1%; DeviceSetName: 100KOHM; PROD_ID: RES-13495; SymbolName_1: RESISTOR; LibraryName: SparkFun-Resistors; Package: 0402-TIGHT
footprint 0402-TIGHT
pins: 1, 2

## 100KOHM-0603-1/10W-1%
designator R?, comment 100kÎ© resistor    A resistor is a passive two-terminal electrical component that implements electrical resistance as a circuit element. Resistors act to reduce current flow, and, at the same time, act to lower voltage levels within circuits. - Wikipedia
GateName_1: G$1; DeviceName: -0603-1/10W-1%; DeviceSetName: 100KOHM; PROD_ID: RES-07828; SymbolName_1: RESISTOR; LibraryName: SparkFun-Resistors; Package: 0603
footprint 0603
pins: 1, 2

## 100KOHM-HORIZ-1/4W-1%
designator R?, comment 100kÎ© resistor    A resistor is a passive two-terminal electrical component that implements electrical resistance as a circuit element. Resistors act to reduce current flow, and, at the same time, act to lower voltage levels within circuits. - Wikipedia
GateName_1: G$1; DeviceName: -HORIZ-1/4W-1%; DeviceSetName: 100KOHM; PROD_ID: RES-12184; SymbolName_1: RESISTOR; LibraryName: SparkFun-Resistors; Package: AXIAL-0.3
footprint AXIAL-0.3
pins: P$1 1, P$2 2

## 100KOHM-HORIZ-1/4W-5%
designator R?, comment 100kÎ© resistor    A resistor is a passive two-terminal electrical component that implements electrical resistance as a circuit element. Resistors act to reduce current flow, and, at the same time, act to lower voltage levels within circuits. - Wikipedia
GateName_1: G$1; DeviceName: -HORIZ-1/4W-5%; DeviceSetName: 100KOHM; PROD_ID: RES-10686; SymbolName_1: RESISTOR; LibraryName: SparkFun-Resistors; Package: AXIAL-0.3
footprint AXIAL-0.3
pins: P$1 1, P$2 2

## 100KOHM-HORIZ_KIT-1/4W-1%
designator R?, comment 100kÎ© resistor    A resistor is a passive two-terminal electrical component that implements electrical resistance as a circuit element. Resistors act to reduce current flow, and, at the same time, act to lower voltage levels within circuits. - Wikipedia
GateName_1: G$1; DeviceName: -HORIZ_KIT-1/4W-1%; DeviceSetName: 100KOHM; PROD_ID: RES-12184; SymbolName_1: RESISTOR; LibraryName: SparkFun-Resistors; Package: AXIAL-0.3-KIT
footprint AXIAL-0.3-KIT
pins: P$1 1, P$2 2

## 100KOHM-HORIZ_KIT-1/4W-5%
designator R?, comment 100kÎ© resistor    A resistor is a passive two-terminal electrical component that implements electrical resistance as a circuit element. Resistors act to reduce current flow, and, at the same time, act to lower voltage levels within circuits. - Wikipedia
GateName_1: G$1; DeviceName: -HORIZ_KIT-1/4W-5%; DeviceSetName: 100KOHM; PROD_ID: RES-10686; SymbolName_1: RESISTOR; LibraryName: SparkFun-Resistors; Package: AXIAL-0.3-KIT
footprint AXIAL-0.3-KIT
pins: P$1 1, P$2 2

## 100KOHM-VERT-1/4W-1%
designator R?, comment 100kÎ© resistor    A resistor is a passive two-terminal electrical component that implements electrical resistance as a circuit element. Resistors act to reduce current flow, and, at the same time, act to lower voltage levels within circuits. - Wikipedia
GateName_1: G$1; DeviceName: -VERT-1/4W-1%; DeviceSetName: 100KOHM; PROD_ID: RES-12184; SymbolName_1: RESISTOR; LibraryName: SparkFun-Resistors; Package: AXIAL-0.1
footprint AXIAL-0.1
pins: P$1 1, P$2 2

## 100KOHM-VERT-1/4W-5%
designator R?, comment 100kÎ© resistor    A resistor is a passive two-terminal electrical component that implements electrical resistance as a circuit element. Resistors act to reduce current flow, and, at the same time, act to lower voltage levels within circuits. - Wikipedia
GateName_1: G$1; DeviceName: -VERT-1/4W-5%; DeviceSetName: 100KOHM; PROD_ID: RES-10686; SymbolName_1: RESISTOR; LibraryName: SparkFun-Resistors; Package: AXIAL-0.1
footprint AXIAL-0.1
pins: P$1 1, P$2 2

## 100KOHM-VERT_KIT-1/4W-1%
designator R?, comment 100kÎ© resistor    A resistor is a passive two-terminal electrical component that implements electrical resistance as a circuit element. Resistors act to reduce current flow, and, at the same time, act to lower voltage levels within circuits. - Wikipedia
GateName_1: G$1; DeviceName: -VERT_KIT-1/4W-1%; DeviceSetName: 100KOHM; PROD_ID: RES-12184; SymbolName_1: RESISTOR; LibraryName: SparkFun-Resistors; Package: AXIAL-0.1-KIT
footprint AXIAL-0.1-KIT
pins: P$1 1, P$2 2

## 100KOHM-VERT_KIT-1/4W-5%
designator R?, comment 100kÎ© resistor    A resistor is a passive two-terminal electrical component that implements electrical resistance as a circuit element. Resistors act to reduce current flow, and, at the same time, act to lower voltage levels within circuits. - Wikipedia
GateName_1: G$1; DeviceName: -VERT_KIT-1/4W-5%; DeviceSetName: 100KOHM; PROD_ID: RES-10686; SymbolName_1: RESISTOR; LibraryName: SparkFun-Resistors; Package: AXIAL-0.1-KIT
footprint AXIAL-0.1-KIT
pins: P$1 1, P$2 2

## 100OHM-0402-TIGHT-1/16W-1%
designator R?, comment 100Î© resistor    A resistor is a passive two-terminal electrical component that implements electrical resistance as a circuit element. Resistors act to reduce current flow, and, at the same time, act to lower voltage levels within circuits. - Wikipedia
GateName_1: G$1; DeviceName: -0402-TIGHT-1/16W-1%; DeviceSetName: 100OHM; PROD_ID: RES-14962; SymbolName_1: RESISTOR; LibraryName: SparkFun-Resistors; Package: 0402-TIGHT
footprint 0402-TIGHT
pins: 1, 2

## 100OHM-0603-1/10W-1%
designator R?, comment 100Î© resistor    A resistor is a passive two-terminal electrical component that implements electrical resistance as a circuit element. Resistors act to reduce current flow, and, at the same time, act to lower voltage levels within circuits. - Wikipedia
GateName_1: G$1; DeviceName: -0603-1/10W-1%; DeviceSetName: 100OHM; PROD_ID: RES-07863; SymbolName_1: RESISTOR; LibraryName: SparkFun-Resistors; Package: 0603
footprint 0603
pins: 1, 2

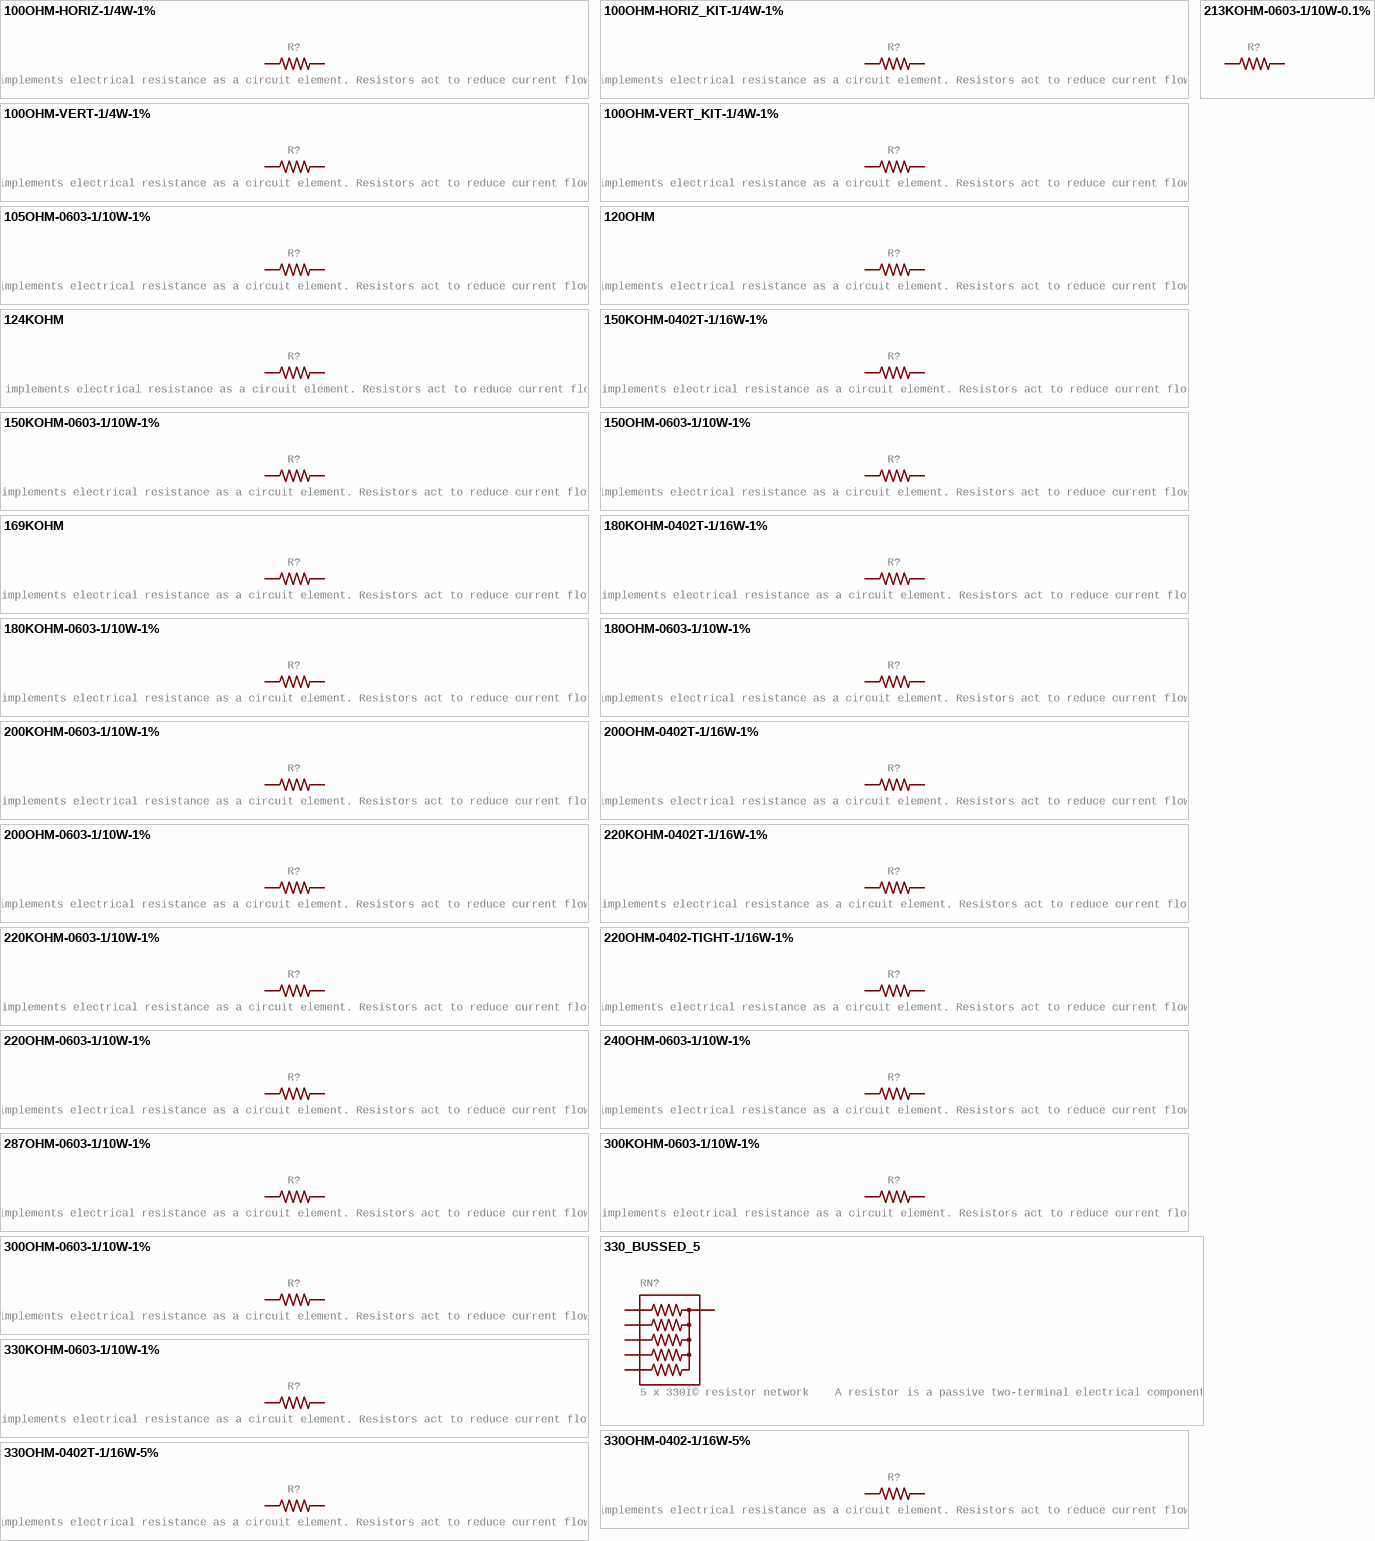
[diagram p6: symbols 100OHM-HORIZ-1/4W-1% to 330OHM-0402T-1/16W-5%]

## 100OHM-HORIZ-1/4W-1%
designator R?, comment 100Î© resistor    A resistor is a passive two-terminal electrical component that implements electrical resistance as a circuit element. Resistors act to reduce current flow, and, at the same time, act to lower voltage levels within circuits. - Wikipedia
GateName_1: G$1; DeviceName: -HORIZ-1/4W-1%; DeviceSetName: 100OHM; PROD_ID: RES-12181; SymbolName_1: RESISTOR; LibraryName: SparkFun-Resistors; Package: AXIAL-0.3
footprint AXIAL-0.3
pins: P$1 1, P$2 2

## 100OHM-HORIZ_KIT-1/4W-1%
designator R?, comment 100Î© resistor    A resistor is a passive two-terminal electrical component that implements electrical resistance as a circuit element. Resistors act to reduce current flow, and, at the same time, act to lower voltage levels within circuits. - Wikipedia
GateName_1: G$1; DeviceName: -HORIZ_KIT-1/4W-1%; DeviceSetName: 100OHM; PROD_ID: RES-12181; SymbolName_1: RESISTOR; LibraryName: SparkFun-Resistors; Package: AXIAL-0.3EZ
footprint AXIAL-0.3EZ
pins: P$1 1, P$2 2

## 100OHM-VERT-1/4W-1%
designator R?, comment 100Î© resistor    A resistor is a passive two-terminal electrical component that implements electrical resistance as a circuit element. Resistors act to reduce current flow, and, at the same time, act to lower voltage levels within circuits. - Wikipedia
GateName_1: G$1; DeviceName: -VERT-1/4W-1%; DeviceSetName: 100OHM; PROD_ID: RES-12181; SymbolName_1: RESISTOR; LibraryName: SparkFun-Resistors; Package: AXIAL-0.1
footprint AXIAL-0.1
pins: P$1 1, P$2 2

## 100OHM-VERT_KIT-1/4W-1%
designator R?, comment 100Î© resistor    A resistor is a passive two-terminal electrical component that implements electrical resistance as a circuit element. Resistors act to reduce current flow, and, at the same time, act to lower voltage levels within circuits. - Wikipedia
GateName_1: G$1; DeviceName: -VERT_KIT-1/4W-1%; DeviceSetName: 100OHM; PROD_ID: RES-12181; SymbolName_1: RESISTOR; LibraryName: SparkFun-Resistors; Package: AXIAL-0.1-KIT
footprint AXIAL-0.1-KIT
pins: P$1 1, P$2 2

## 105OHM-0603-1/10W-1%
designator R?, comment 105Î© resistor    A resistor is a passive two-terminal electrical component that implements electrical resistance as a circuit element. Resistors act to reduce current flow, and, at the same time, act to lower voltage levels within circuits. - Wikipedia
GateName_1: G$1; DeviceName: -0603-1/10W-1%; DeviceSetName: 105OHM; PROD_ID: RES-10751; SymbolName_1: RESISTOR; LibraryName: SparkFun-Resistors; Package: 0603
footprint 0603
pins: 1, 2

## 120OHM
designator R?, comment 120Î© resistor    A resistor is a passive two-terminal electrical component that implements electrical resistance as a circuit element. Resistors act to reduce current flow, and, at the same time, act to lower voltage levels within circuits. - Wikipedia
GateName_1: G$1; DeviceSetName: 120OHM; SymbolName_1: RESISTOR; LibraryName: SparkFun-Resistors; Package: 0603
footprint 0603
pins: 1, 2

## 124KOHM
designator R?, comment 124kÎ© resistor     A resistor is a passive two-terminal electrical component that implements electrical resistance as a circuit element. Resistors act to reduce current flow, and, at the same time, act to lower voltage levels within circuits. - Wikipedia
GateName_1: G$1; DeviceSetName: 124KOHM; PROD_ID: RES-14395; SymbolName_1: RESISTOR; LibraryName: SparkFun-Resistors; Package: 0603
footprint 0603
pins: 1, 2

## 150KOHM-0402T-1/16W-1%
designator R?, comment 150kÎ© resistor    A resistor is a passive two-terminal electrical component that implements electrical resistance as a circuit element. Resistors act to reduce current flow, and, at the same time, act to lower voltage levels within circuits. - Wikipedia
GateName_1: G$1; DeviceName: -0402T-1/16W-1%; DeviceSetName: 150KOHM; PROD_ID: RES-15093; SymbolName_1: RESISTOR; LibraryName: SparkFun-Resistors; Package: 0402-TIGHT
footprint 0402-TIGHT
pins: 1, 2

## 150KOHM-0603-1/10W-1%
designator R?, comment 150kÎ© resistor    A resistor is a passive two-terminal electrical component that implements electrical resistance as a circuit element. Resistors act to reduce current flow, and, at the same time, act to lower voltage levels within circuits. - Wikipedia
GateName_1: G$1; DeviceName: -0603-1/10W-1%; DeviceSetName: 150KOHM; PROD_ID: RES-09117; SymbolName_1: RESISTOR; LibraryName: SparkFun-Resistors; Package: 0603
footprint 0603
pins: 1, 2

## 150OHM-0603-1/10W-1%
designator R?, comment 150Î© resistor    A resistor is a passive two-terminal electrical component that implements electrical resistance as a circuit element. Resistors act to reduce current flow, and, at the same time, act to lower voltage levels within circuits. - Wikipedia
GateName_1: G$1; DeviceName: -0603-1/10W-1%; DeviceSetName: 150OHM; PROD_ID: RES-11028; SymbolName_1: RESISTOR; LibraryName: SparkFun-Resistors; Package: 0603
footprint 0603
pins: 1, 2

## 169KOHM
designator R?, comment 169kÎ© resistor    A resistor is a passive two-terminal electrical component that implements electrical resistance as a circuit element. Resistors act to reduce current flow, and, at the same time, act to lower voltage levels within circuits. - Wikipedia
GateName_1: G$1; DeviceSetName: 169KOHM; PROD_ID: RES-14394; SymbolName_1: RESISTOR; LibraryName: SparkFun-Resistors; Package: 0603
footprint 0603
pins: 1, 2

## 180KOHM-0402T-1/16W-1%
designator R?, comment 180kÎ© resistor    A resistor is a passive two-terminal electrical component that implements electrical resistance as a circuit element. Resistors act to reduce current flow, and, at the same time, act to lower voltage levels within circuits. - Wikipedia
GateName_1: G$1; DeviceName: -0402T-1/16W-1%; DeviceSetName: 180KOHM; PROD_ID: RES-16069; SymbolName_1: RESISTOR; LibraryName: SparkFun-Resistors; Package: 0402-TIGHT
footprint 0402-TIGHT
pins: 1, 2

## 180KOHM-0603-1/10W-1%
designator R?, comment 180kÎ© resistor    A resistor is a passive two-terminal electrical component that implements electrical resistance as a circuit element. Resistors act to reduce current flow, and, at the same time, act to lower voltage levels within circuits. - Wikipedia
GateName_1: G$1; DeviceName: -0603-1/10W-1%; DeviceSetName: 180KOHM; PROD_ID: RES-10066; SymbolName_1: RESISTOR; LibraryName: SparkFun-Resistors; Package: 0603
footprint 0603
pins: 1, 2

## 180OHM-0603-1/10W-1%
designator R?, comment 180Î© resistor    A resistor is a passive two-terminal electrical component that implements electrical resistance as a circuit element. Resistors act to reduce current flow, and, at the same time, act to lower voltage levels within circuits. - Wikipedia
GateName_1: G$1; DeviceName: -0603-1/10W-1%; DeviceSetName: 180OHM; PROD_ID: RES-08788; SymbolName_1: RESISTOR; LibraryName: SparkFun-Resistors; Package: 0603
footprint 0603
pins: 1, 2

## 200KOHM-0603-1/10W-1%
designator R?, comment 200kÎ© resistor    A resistor is a passive two-terminal electrical component that implements electrical resistance as a circuit element. Resistors act to reduce current flow, and, at the same time, act to lower voltage levels within circuits. - Wikipedia
GateName_1: G$1; DeviceName: -0603-1/10W-1%; DeviceSetName: 200KOHM; PROD_ID: RES-09385; SymbolName_1: RESISTOR; LibraryName: SparkFun-Resistors; Package: 0603
footprint 0603
pins: 1, 2

## 200OHM-0402T-1/16W-1%
designator R?, comment 200Î© resistor    A resistor is a passive two-terminal electrical component that implements electrical resistance as a circuit element. Resistors act to reduce current flow, and, at the same time, act to lower voltage levels within circuits. - Wikipedia
GateName_1: G$1; DeviceName: -0402T-1/16W-1%; DeviceSetName: 200OHM; PROD_ID: RES-15550; SymbolName_1: RESISTOR; LibraryName: SparkFun-Resistors; Package: 0402-TIGHT
footprint 0402-TIGHT
pins: 1, 2

## 200OHM-0603-1/10W-1%
designator R?, comment 200Î© resistor    A resistor is a passive two-terminal electrical component that implements electrical resistance as a circuit element. Resistors act to reduce current flow, and, at the same time, act to lower voltage levels within circuits. - Wikipedia
GateName_1: G$1; DeviceName: -0603-1/10W-1%; DeviceSetName: 200OHM; PROD_ID: RES-08220; SymbolName_1: RESISTOR; LibraryName: SparkFun-Resistors; Package: 0603
footprint 0603
pins: 1, 2

## 213KOHM-0603-1/10W-0.1%
designator R?
GateName_1: G$1; SymbolName_1: RESISTOR; DeviceName: -0603-1/10W-0.1%; DeviceSetName: 213KOHM; PROD_ID: RES-14261; LibraryName: SparkFun-Resistors; Package: 0603
footprint 0603
pins: 1, 2

## 220KOHM-0402T-1/16W-1%
designator R?, comment 220kÎ© resistor    A resistor is a passive two-terminal electrical component that implements electrical resistance as a circuit element. Resistors act to reduce current flow, and, at the same time, act to lower voltage levels within circuits. - Wikipedia
GateName_1: G$1; DeviceName: -0402T-1/16W-1%; DeviceSetName: 220KOHM; PROD_ID: RES-15094; SymbolName_1: RESISTOR; LibraryName: SparkFun-Resistors; Package: 0402-TIGHT
footprint 0402-TIGHT
pins: 1, 2

## 220KOHM-0603-1/10W-1%
designator R?, comment 220kÎ© resistor    A resistor is a passive two-terminal electrical component that implements electrical resistance as a circuit element. Resistors act to reduce current flow, and, at the same time, act to lower voltage levels within circuits. - Wikipedia
GateName_1: G$1; DeviceName: -0603-1/10W-1%; DeviceSetName: 220KOHM; PROD_ID: RES-08969; SymbolName_1: RESISTOR; LibraryName: SparkFun-Resistors; Package: 0603
footprint 0603
pins: 1, 2

## 220OHM-0402-TIGHT-1/16W-1%
designator R?, comment 220Î© resistor    A resistor is a passive two-terminal electrical component that implements electrical resistance as a circuit element. Resistors act to reduce current flow, and, at the same time, act to lower voltage levels within circuits. - Wikipedia
GateName_1: G$1; DeviceName: -0402-TIGHT-1/16W-1%; DeviceSetName: 220OHM; PROD_ID: RES-15269; SymbolName_1: RESISTOR; LibraryName: SparkFun-Resistors; Package: 0402-TIGHT
footprint 0402-TIGHT
pins: 1, 2

## 220OHM-0603-1/10W-1%
designator R?, comment 220Î© resistor    A resistor is a passive two-terminal electrical component that implements electrical resistance as a circuit element. Resistors act to reduce current flow, and, at the same time, act to lower voltage levels within circuits. - Wikipedia
GateName_1: G$1; DeviceName: -0603-1/10W-1%; DeviceSetName: 220OHM; PROD_ID: RES-07861; SymbolName_1: RESISTOR; LibraryName: SparkFun-Resistors; Package: 0603
footprint 0603
pins: 1, 2

## 240OHM-0603-1/10W-1%
designator R?, comment 240Î© resistor    A resistor is a passive two-terminal electrical component that implements electrical resistance as a circuit element. Resistors act to reduce current flow, and, at the same time, act to lower voltage levels within circuits. - Wikipedia
GateName_1: G$1; DeviceName: -0603-1/10W-1%; DeviceSetName: 240OHM; PROD_ID: RES-07849; SymbolName_1: RESISTOR; LibraryName: SparkFun-Resistors; Package: 0603
footprint 0603
pins: 1, 2

## 287OHM-0603-1/10W-1%
designator R?, comment 287Î© resistor    A resistor is a passive two-terminal electrical component that implements electrical resistance as a circuit element. Resistors act to reduce current flow, and, at the same time, act to lower voltage levels within circuits. - Wikipedia
GateName_1: G$1; DeviceName: -0603-1/10W-1%; DeviceSetName: 287OHM; PROD_ID: RES-10752; SymbolName_1: RESISTOR; LibraryName: SparkFun-Resistors; Package: 0603
footprint 0603
pins: 1, 2

## 300KOHM-0603-1/10W-1%
designator R?, comment 300kÎ© resistor    A resistor is a passive two-terminal electrical component that implements electrical resistance as a circuit element. Resistors act to reduce current flow, and, at the same time, act to lower voltage levels within circuits. - Wikipedia
GateName_1: G$1; DeviceName: -0603-1/10W-1%; DeviceSetName: 300KOHM; PROD_ID: RES-10809; SymbolName_1: RESISTOR; LibraryName: SparkFun-Resistors; Package: 0603
footprint 0603
pins: 1, 2

## 300OHM-0603-1/10W-1%
designator R?, comment 300Î© resistor    A resistor is a passive two-terminal electrical component that implements electrical resistance as a circuit element. Resistors act to reduce current flow, and, at the same time, act to lower voltage levels within circuits. - Wikipedia
GateName_1: G$1; DeviceName: -0603-1/10W-1%; DeviceSetName: 300OHM; PROD_ID: RES-10328; SymbolName_1: RESISTOR; LibraryName: SparkFun-Resistors; Package: 0603
footprint 0603
pins: 1, 2

## 330_BUSSED_5
designator RN?, comment 5 x 330Î© resistor network    A resistor is a passive two-terminal electrical component that implements electrical resistance as a circuit element. Resistors act to reduce current flow, and, at the same time, act to lower voltage levels within circuits. - Wikipedia   This is a bussed or ladder network.
GateName_1: G$1; SymbolName_1: RPACK-BUSSED-5; DeviceSetName: 330_BUSSED_5; SF_SKU: COM-10856; LibraryName: SparkFun-Resistors; Package: RPACK-SIP-PTH-5
footprint RPACK-SIP-PTH-5
pins: P$1 1, P$2 2, P$3 3, P$4 4, P$5 5, P$6 6

## 330KOHM-0603-1/10W-1%
designator R?, comment 330kÎ© resistor    A resistor is a passive two-terminal electrical component that implements electrical resistance as a circuit element. Resistors act to reduce current flow, and, at the same time, act to lower voltage levels within circuits. - Wikipedia
GateName_1: G$1; DeviceName: -0603-1/10W-1%; DeviceSetName: 330KOHM; PROD_ID: RES-08968; SymbolName_1: RESISTOR; LibraryName: SparkFun-Resistors; Package: 0603
footprint 0603
pins: 1, 2